# EAGLE library part CURRENT-SENSOR-ACS709 (library IntegerLabs)
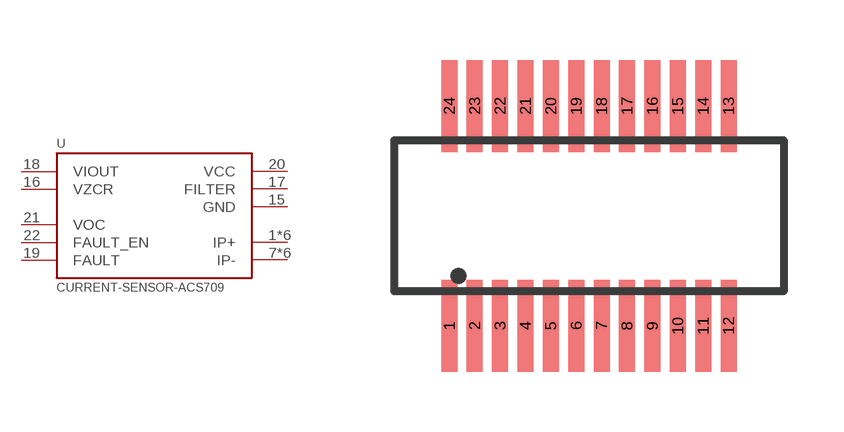
[diagram p23: symbol with the pads of QSOP24; footprint QSOP24]

Designator prefix -

## CURRENT-SENSOR-ACS709  [QSOP24]
1  IP+
2  IP+
3  IP+
4  IP+
5  IP+
6  IP+
7  IP-
8  IP-
9  IP-
10  IP-
11  IP-
12  IP-
15  GND
16  VZCR
17  FILTER
18  VIOUT
19  FAULT
20  VCC
21  VOC
22  FAULT_EN

## Footprint QSOP24 (pad centres in mm)
Small Outline Package
smd 0.4 x 2.3: 1 -2.858,-2.75; 2 -2.223,-2.75; 3 -1.588,-2.75; 4 -0.953,-2.75; 5 -0.318,-2.75; 6 0.318,-2.75; 7 0.953,-2.75; 8 1.588,-2.75; 9 2.223,-2.75; 10 2.858,-2.75; 11 3.493,-2.75; 12 4.128,-2.75; 13 4.128,2.75; 14 3.493,2.75; 15 2.858,2.75; 16 2.223,2.75; 17 1.588,2.75; 18 0.953,2.75; 19 0.318,2.75; 20 -0.318,2.75; 21 -0.953,2.75; 22 -1.588,2.75; 23 -2.223,2.75; 24 -2.858,2.75